# EAGLE library part DFM-076C-NL-WD (library lcd)
ST7637 based STN display 29 pin with external capasitors
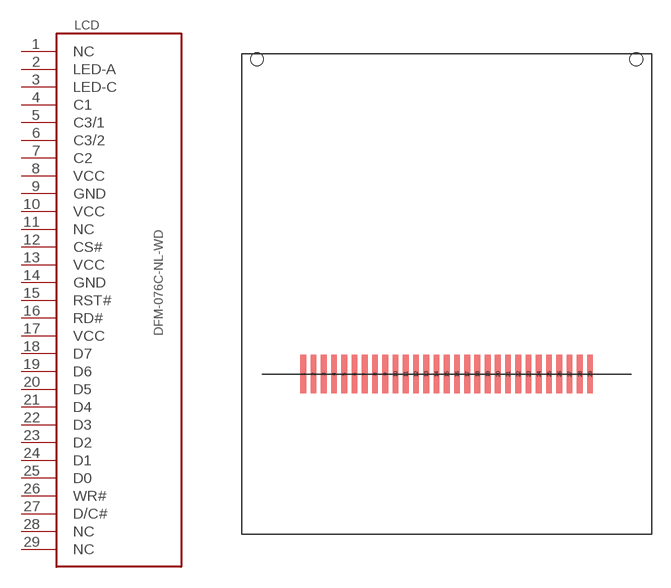
[diagram p0: symbol with the pads of LCD-PACK; footprint LCD-PACK]

Designator prefix LCD

## DFM-076C-NL-WD  [LCD-PACK]
1  NC  pas
2  LED-A  in
3  LED-C  in
4  C1
5  C3/1
6  C3/2
7  C2
8  VCC  pwr
9  GND  pwr
10  VCC  pwr
11  NC  pas
12  CS#  in
13  VCC  pwr
14  GND  pwr
15  RST#  in
16  RD#  in
17  VCC  pwr
18  D7
19  D6
20  D5
21  D4
22  D3
23  D2
24  D1
25  D0
26  WR#  in
27  D/C#  in
28  NC  pas
29  NC  pas

## Footprint LCD-PACK (pad centres in mm)
smd 0.45 x 3: 1 -11.2,0; 2 -10.4,0; 3 -9.6,0; 4 -8.8,0; 5 -8,0; 6 -7.2,0; 7 -6.4,0; 8 -5.6,0; 9 -4.8,0; 10 -4,0; 11 -3.2,0; 12 -2.4,0; 13 -1.6,0; 14 -0.8,0; 15 0,0; 16 0.8,0; 17 1.6,0; 18 2.4,0; 19 3.2,0; 20 4,0; 21 4.8,0; 22 5.6,0; 23 6.4,0; 24 7.2,0; 25 8,0; 26 8.8,0; 27 9.6,0; 28 10.4,0; 29 11.2,0
hole 1 at -14.8,24.6
hole 1 at 14.8,24.6